# Altium footprint library AltiumOpenLibs.PcbLib: 173 footprints (part 4 of 11)
Each footprint in its own frame and in the unit in brackets; x right, y up, seen from the top. Pads: shape width x height; smd on the part's side, far side on the other; paste and mask are expansions set on the pad; w line width, h text height; cw(c..) or ccw(c..) is an arc to the next point about the centre after c.
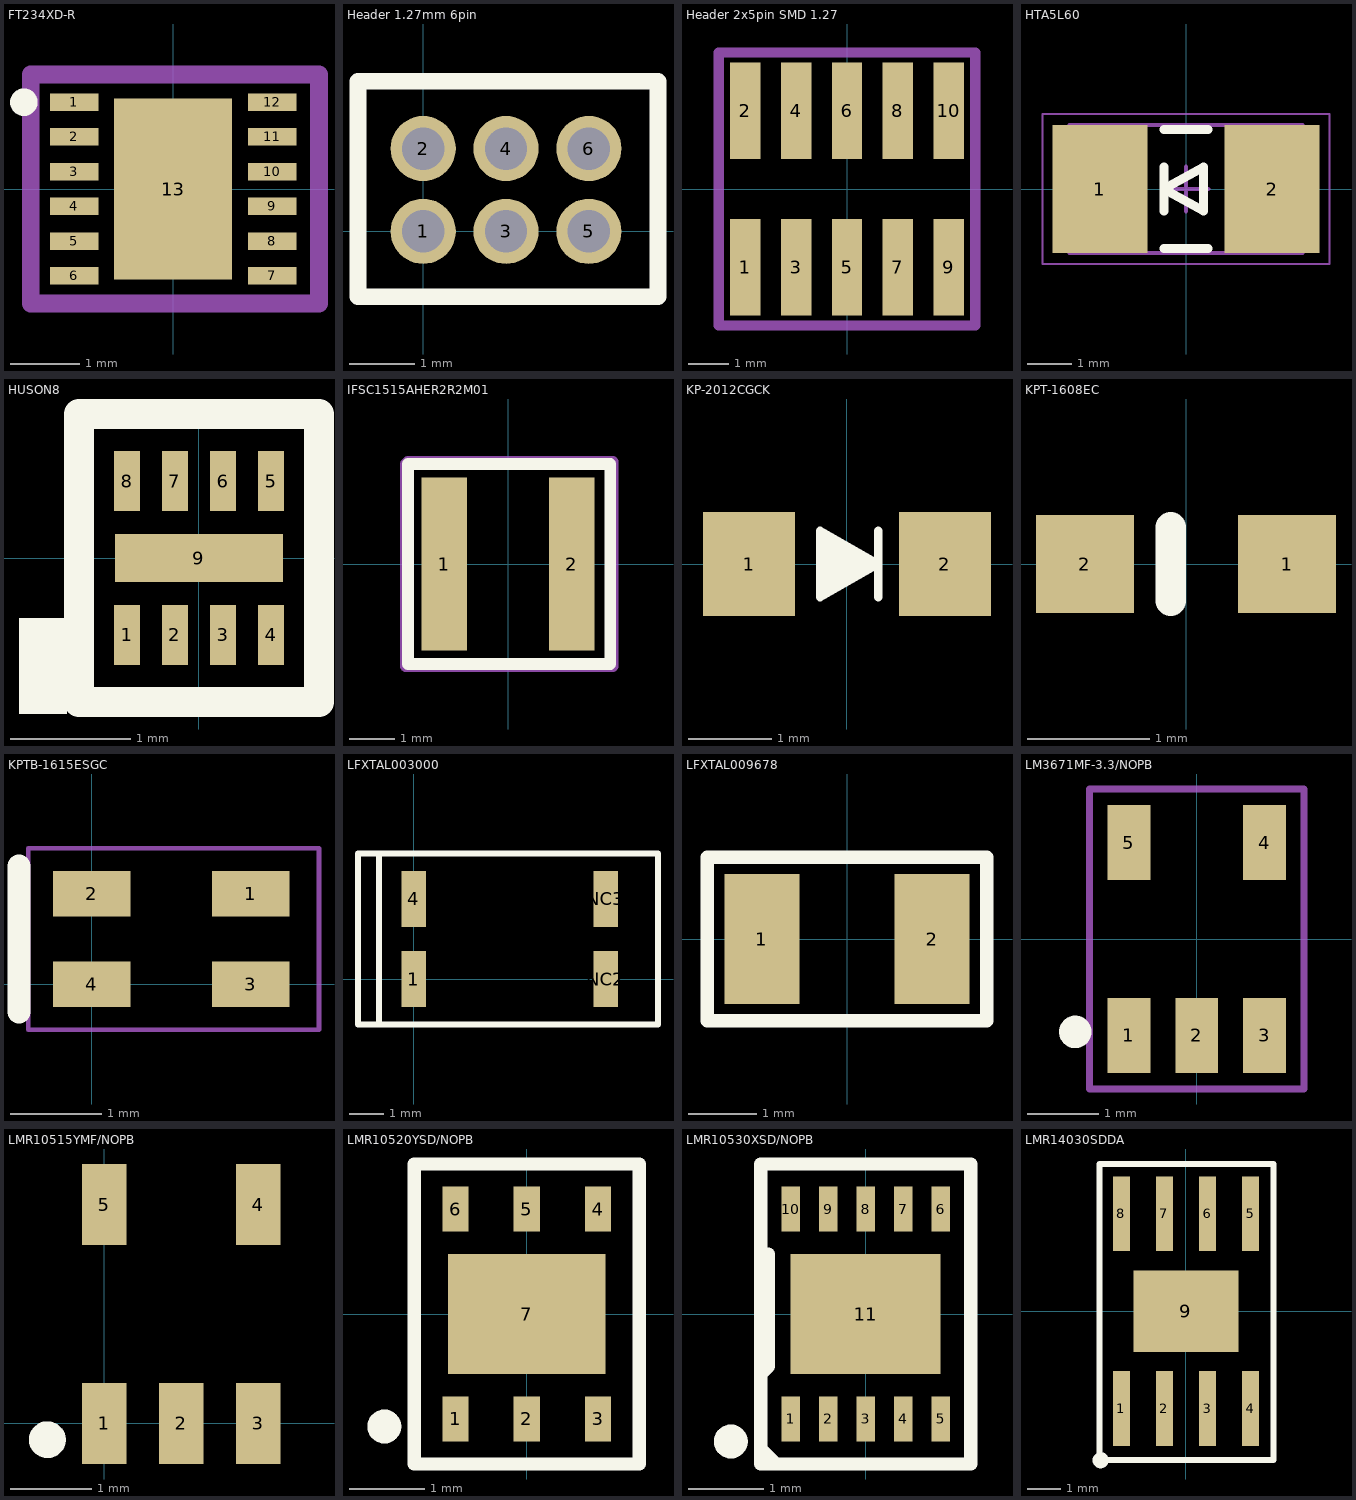
[diagram p3: the footprints below, top view; thin cyan lines are the x and y axes]

## FT234XD-R [mm]
pads (13):
  rect 0.7x0.25 smd: 1(-1.425,1.25) 2(-1.425,0.75) 3(-1.425,0.25) 4(-1.425,-0.25) 5(-1.425,-0.75) 6(-1.425,-1.25) 7(1.425,-1.25) 8(1.425,-0.75) 9(1.425,-0.25) 10(1.425,0.25) 11(1.425,0.75) 12(1.425,1.25)
  rect 1.7x2.6 smd: 13(0,0)
Top Overlay:
  circle w0.254: c-2.15,1.25 r0.071
Mechanical 15:
  lines w0.254: -2.05,-1.65 2.1,-1.65 2.1,1.65 -2.05,1.65 -2.05,-1.65

## Header 1.27mm 6pin [mm]
pads (6):
  round 1 hole 0.65: 1(0,0) 2(0,1.27) 3(1.27,0) 4(1.27,1.27) 5(2.54,0) 6(2.54,1.27)
Top Overlay:
  lines w0.254: -1,-1 3.6,-1 3.6,2.3 -1,2.3 -1,-1

## Header 2x5pin SMD 1.27 [mm]
pads (10):
  rect 0.76x2.4 smd: 1(-2.54,-1.95) 2(-2.54,1.95) 3(-1.27,-1.95) 4(-1.27,1.95) 5(0,-1.95) 6(0,1.95) 7(1.27,-1.95) 8(1.27,1.95) 9(2.54,-1.95) 10(2.54,1.95)
Mechanical 15:
  lines w0.254: -3.2,-3.4 -3.2,1.9 -3.2,3.4 3.2,3.4 3.2,-3.4 -3.2,-3.4

## HTA5L60 [mm] "Chip Diode, 2-Leads, Body 5.04x2.63mm, IPC Medium Density"
height 2.62
pads (2):
  rect 2.15x2.9 smd: 1(-1.95,0) 2(1.95,0)
Top Overlay:
  lines w0.2: -0.5,-1.35 0.5,-1.35 ; -0.5,-0.5 -0.5,0.5 ; -0.5,1.35 0.5,1.35 ; -0.5,0 0.4,-0.5 0.4,0.5 -0.5,0
Mechanical 13:
  lines w0.1: -2.64,-1.45 2.64,-1.45 2.64,1.45 -2.64,1.45 -2.64,-1.45
Mechanical 15:
  lines w0.05: -3.25,-1.7 3.25,-1.7 3.25,1.7 -3.25,1.7 -3.25,-1.7
  lines w0.1: -0.5,0 0.5,0 ; 0,-0.5 0,0.5
3D body: height 2.62, standoff 0, extent 1.5,-1.45 2.64,1.45
3D body: height 2.62, standoff 0, extent -2.64,-1.45 -1.5,1.45
3D body: height 2.62, standoff 0, extent -1.5,-1.45 1.5,1.45

## HUSON8 [mm]
pads (9):
  rect 0.22x0.5 smd: 1(-0.6,-0.64) 2(-0.2,-0.64) 3(0.2,-0.64) 4(0.6,-0.64) 5(0.6,0.64) 6(0.2,0.64) 7(-0.2,0.64) 8(-0.6,0.64)
  rect 1.4x0.4 smd: 9(0,0)
Top Overlay:
  rectangle: -1.5,-1.3 -1.1,-0.5
  lines w0.254: -1,-1.2 -0.8,-1.2 1,-1.2 1,1.2 -1,1.2 -1,-0.6 -1,-1.2
3D body: height 0.6, standoff 0.05, extent -0.85,-0.7 0.85,0.7

## IFSC1515AHER2R2M01 [mm]
pads (2):
  rect 1x3.8 smd: 1(-1.4,0) 2(1.4,0)
Top Overlay:
  lines w0.254: -2.2,-2.2 2.25,-2.2 2.25,2.2 -2.2,2.2 -2.2,-2.2
Mechanical 15:
  lines w0.254: -2.25,-2.25 -2.25,2.2 -2.2,2.25 2.3,2.25 2.3,-2.25 -2.25,-2.25

## KP-2012CGCK [mm]
pads (2):
  rect 1.1x1.25 smd: 1(-1.175,0) 2(1.175,0)
Top Overlay:
  region: -0.325,0.4 -0.062,0.25 0.375,0 -0.325,-0.4
  lines w0.1: 0.375,-0.4 0.375,0.4 ; -0.325,-0.4 0.375,0 -0.325,0.4 -0.325,-0.4

## KPT-1608EC [mm]
pads (2):
  rect 0.8x0.8 smd: 1(0.825,0) 2(-0.825,0)
Top Overlay:
  lines w0.25: -0.125,-0.3 -0.125,0.3

## KPTB-1615ESGC [mm]
pads (4):
  rect 0.85x0.5 smd: 1(1.75,1) 2(0,1) 3(1.75,0) 4(0,0)
Top Overlay:
  lines w0.254: -0.8,-0.3 -0.8,1.3
Mechanical 15:
  lines w0.05: -0.7,-0.5 -0.7,1.5 -0.6,1.5 2.5,1.5 2.5,-0.5 -0.7,-0.5

## LFXTAL003000 [mm]
pads (4):
  rect 0.7x1.6 smd: 1(0,0) 4(0,2.3) NC2(5.5,0) NC3(5.5,2.3)
Top Overlay:
  lines w0.178: -1,-1.3 -1,3.6 ; -1.6,-1.3 7,-1.3 7,3.6 -1.6,3.6 -1.6,-1.3

## LFXTAL009678 [mm]
pads (2):
  rect 1.1x1.9 smd: 1(-1.25,0) 2(1.25,0)
Top Overlay:
  lines w0.2: -2.05,-1.2 -2.05,1.2 2.05,1.2 2.05,-1.2 -2.05,-1.2

## LM3671MF-3.3/NOPB [mm]
pads (5):
  rect 0.6x1.05 smd: 1(-0.95,-1.35) 2(0,-1.35) 3(0.95,-1.35) 4(0.95,1.35) 5(-0.95,1.35)
Top Overlay:
  circle w0.254: c-1.7,-1.3 r0.1
Mechanical 15:
  lines w0.1: -1.5,-2.1 -1.5,2.1 1.5,2.1 1.5,-2.1 -1.5,-2.1

## LMR10515YMF/NOPB [mm]
pads (5):
  rect 0.55x1 smd: 1(0,0) 2(0.95,0) 3(1.9,0) 4(1.9,2.7) 5(0,2.7)
Top Overlay:
  circle w0.254: c-0.7,-0.2 r0.1

## LMR10520YSD/NOPB [mm]
pads (7):
  rect 0.35x0.6 smd: 1(-0.95,-1.4) 2(0,-1.4) 3(0.95,-1.4) 4(0.95,1.4) 5(0,1.4) 6(-0.95,1.4)
  rect 2.1x1.6 smd: 7(0,0)
Top Overlay:
  circle w0.254: c-1.9,-1.5 r0.1
  lines w0.178: -1.5,-2 1.5,-2 1.5,2 -1.5,2 -1.5,-1.8 -1.5,-2

## LMR10530XSD/NOPB [mm]
pads (11):
  rect 0.25x0.6 smd: 1(-1,-1.4) 2(-0.5,-1.4) 3(0,-1.4) 4(0.5,-1.4) 5(1,-1.4) 6(1,1.4) 7(0.5,1.4) 8(0,1.4) 9(-0.5,1.4) 10(-1,1.4)
  rect 2x1.6 smd: 11(0,0)
Top Overlay:
  circle w0.254: c-1.8,-1.7 r0.1
  lines w0.178: -1.4,-1.8 -1.2,-2 ; -1.4,-0.8 -1.3,-0.7 -1.3,0.8 ; -1.2,-2 -1.2,-2 ; -1.4,-2 1.4,-2 1.4,2 -1.4,2 -1.4,-2

## LMR14030SDDA [mm]
pads (9):
  rect 0.5x2.2 smd: 1(-1.905,-2.875) 2(-0.635,-2.875) 3(0.635,-2.875) 4(1.905,-2.875) 5(1.905,2.875) 6(0.635,2.875) 7(-0.635,2.875) 8(-1.905,2.875)
  rect 3.1x2.4 smd: 9(0,0)
Top Overlay:
  circle w0.254: c-2.52,-4.4 r0.112
  lines w0.178: -2.542,-4.377 -2.55,-4.37 -2.55,-4.03 -2.55,4.23 -2.55,4.27 -2.55,4.34 2.58,4.34 2.58,-4.39 2.57,-4.4 -2.52,-4.4 -2.528,-4.392